# EAGLE library part ESP-12S (library me)
ESP8266-12 with thru-hole pads.
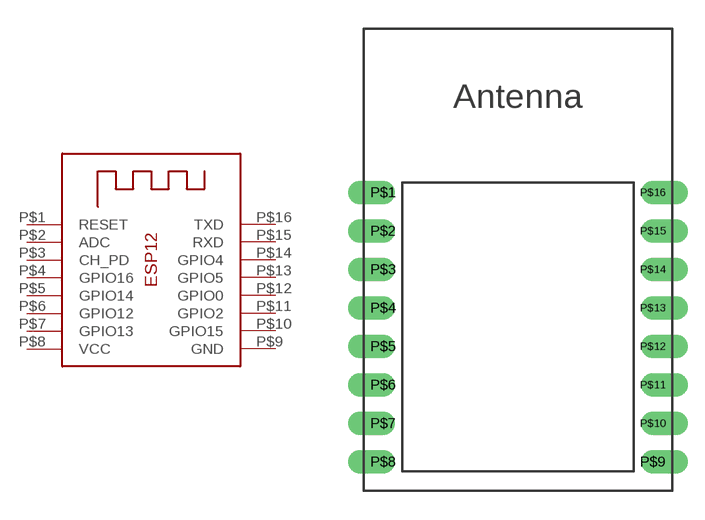
[diagram p21: symbol with the pads of ESP-12S; footprint ESP-12S]

Designator prefix SOC

## ESP-12S  [ESP-12S]
P$1  RESET  in
P$2  ADC  pas
P$3  CH_PD  in
P$4  GPIO16
P$5  GPIO14
P$6  GPIO12
P$7  GPIO13
P$8  VCC  pwr
P$9  GND  pwr
P$10  GPIO15
P$11  GPIO2
P$12  GPIO0
P$13  GPIO5
P$14  GPIO4
P$15  RXD  in
P$16  TXD  out

## Footprint ESP-12S (pad centres in mm)
drill 0.7 offset: P$1 -7,7; P$2 -7,5; P$3 -7,3; P$4 -7,1; P$5 -7,-1; P$6 -7,-3; P$7 -7,-5; P$8 -7,-7; P$9 7,-7; P$10 7,-5; P$11 7,-3; P$12 7,-1; P$13 7,1; P$14 7,3; P$15 7,5; P$16 7,7